# Altium schematic symbol library TJA1080ATS-TSSOP20.SchLib: 1 symbol
Pins are listed as number, name and electrical type; pins without a type are passive.

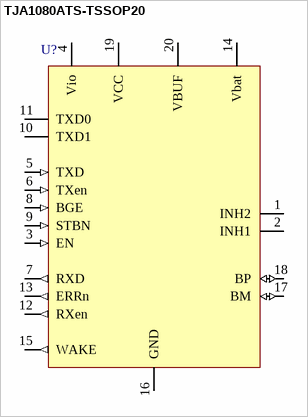
[diagram p0: symbol TJA1080ATS-TSSOP20]

## TJA1080ATS-TSSOP20
designator U?  (value not drawn)
pins: 1 INH2 (oe), 2 INH1 (oe), 3 EN (in), 4 Vio (power), 5 TXD (in), 6 TXen (in), 7 RXD (out), 8 BGE (in), 9 STBN (in), 10 TXD1 (oc), 11 TXD0 (oc), 12 RXen (out), 13 ERRn (out), 14 Vbat (power), 15 WAKE (out), 16 GND (power), 17 BM (io), 18 BP (io), 19 VCC (power), 20 VBUF (power)